# EAGLE library part AS-ITM-00371 (library tinycircuits)
CONN HEADER SH 6POS SIDE 1MM TIN
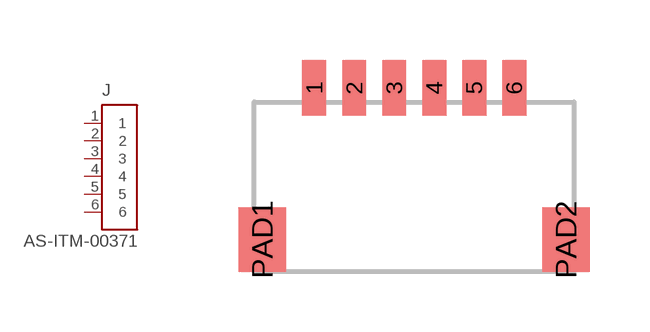
[diagram p151: symbol with the pads of JST_SH_6X1; footprint JST_SH_6X1]

Designator prefix J

## AS-ITM-00371 (PARTNO: AS-ITM-00371; PNPROTATION: 180; VALUE: SM06B-SRSS)  [JST_SH_6X1]
1  1
2  2
3  3
4  4
5  5
6  6

## Footprint JST_SH_6X1 (pad centres in mm)
smd 0.6 x 1.4: 1 -2.5,2.475; 2 -1.5,2.475; 3 -0.5,2.475; 4 0.5,2.475; 5 1.5,2.475; 6 2.5,2.475
smd 1.2 x 1.6: PAD1 -3.8,-1.325; PAD2 3.8,-1.325